# Altium integrated library MAXIM_Real_Time_Clocks.IntLib: 2 symbols
Pins are listed as number, name and electrical type; pins without a type are passive.

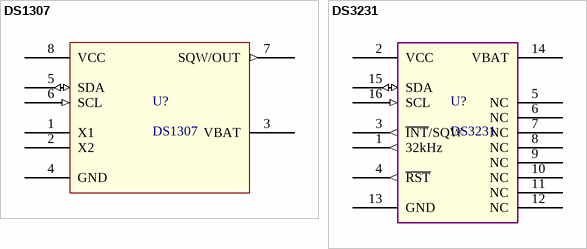
[diagram p0: symbols DS1307 to DS3231]

## DS1307
designator U?
64 x 8, Serial, I2C Real-Time Clock; ComponentLink1Description: Datasheet; ComponentLink1URL: https://datasheets.maximintegrated.com/en/ds/DS1307.pdf; Supplier 1: Farnell; Supplier Part Number 1: 2909754
footprint DIP762W47P254L991H457Q8 - duplicate (DIP, 7.62 mm lead span, 2.54 mm pitch; 8 pin, 9.91 mm L X 7.87 mm W X 4.572 mm H body)
footprint SOIC8P127_490X600X175L83X42N - duplicate (Small Outline IC (SOIC), 1.27 mm pitch; 8 pin, 4.90 mm L X 3.90 mm W X 1.75 mm H body)
pins: 1 X1 "Connections for Standard 32.768kHz Quartz Crystal. The internal oscillator circuitry is designed for operation with a crystal having a specified load capacitance (CL) of 12.5pF. X1 is the input to the oscillator and can optionally be connected to an external 32.768kHz oscillator. The output of the internal oscillator, X2, is floated if an external oscillator is connected to X1.", 2 X2 "Connections for Standard 32.768kHz Quartz Crystal. The internal oscillator circuitry is designed for operation with a crystal having a specified load capacitance (CL) of 12.5pF. X1 is the input to the oscillator and can optionally be connected to an external 32.768kHz oscillator. The output of the internal oscillator, X2, is floated if an external oscillator is connected to X1.", 3 VBAT (power) "Backup Supply Input for Any Standard 3V Lithium Cell or Other Energy Source. Battery voltage must be held between the minimum and maximum limits for proper operation. Diodes in series between the battery and the VBAT pin may prevent proper operation. If a backup supply is not required, VBAT must be grounded. The nominal power-fail trip point (VPF) voltage at which access to the RTC and user RAM is denied is set by the internal circuitry as 1.25 x VBAT nominal. A lithium battery with 48mAh or greater will back up the DS1307 for more than 10 years in the absence of power at +25°C.", 4 GND (power) "Ground", 5 SDA (io) "Serial Data Input/Output. SDA is the data input/output for the I2C serial interface. The SDA pin is open drain and requires an external pullup resistor. The pullup voltage can be up to 5.5V regardless of the voltage on VCC.", 6 SCL (in) "Serial Clock Input. SCL is the clock input for the I2C interface and is used to synchronize data movement on the serial interface. The pullup voltage can be up to 5.5V regardless of the voltage on VCC", 7 SQW/OUT (out) "Square Wave/Output Driver. When enabled, the SQWE bit set to 1, the SQW/OUT pin outputs one of four square-wave frequencies (1Hz, 4kHz, 8kHz, 32kHz). The SQW/OUT pin is open drain and requires an external pullup resistor. SQW/OUT operates with either VCC or VBAT applied. The pullup voltage can be up to 5.5V regardless of the voltage on VCC. If not used, this pin can be left floating", 8 VCC (power) "Primary Power Supply. When voltage is applied within normal limits, the device is fully accessible and data can be written and read. When a backup supply is connected to the device and VCC is below VTP, read and writes are inhibited. However, the timekeeping function continues unaffected by the lower input voltage"

## DS3231
designator U?
Extremely Accurate I2C-Integrated  RTC/TCXO/Crystal; ComponentLink1Description: Datasheet; ComponentLink1URL: https://datasheets.maximintegrated.com/en/ds/DS3231.pdf; Supplier 1: Mouser; Supplier Part Number 1: 700-DS3231M+
footprint SOIC127P1032X250-16 (IPC-7351C compliant Small Outline IC (SOIC), 1.27 mm pitch; 16 pin, 10.30 mm L X 7.50 mm W X 2.65 mm H body)
pins: 1 32kHz (out) "32kHz Output. This open-drain pin requires an external pullup resistor. When enabled, the output operates on  either power supply. It may be left open if not used.", 2 VCC (power) "DC Power Pin for Primary Power Supply. This pin should be decoupled using a 0.1μF to 1.0μF capacitor.  If not used, connect to ground.", 3 ~{INT}/SQW (out) "Active-Low Interrupt or Square-Wave Output. This open-drain pin requires an external pullup resistor connected  to a supply at 5.5V or less. This multifunction pin is determined by the state of the INTCN bit in the Control  Register (0Eh). When INTCN is set to logic 0, this pin outputs a square wave and its frequency is determined by  RS2 and RS1 bits. When INTCN is set to logic 1, then a match between the timekeeping registers and either of  the alarm registers activates the INT/SQW pin (if the alarm is enabled). Because the INTCN bit is set to logic 1  when power is first applied, the pin defaults to an interrupt output with alarms disabled. The pullup voltage can  be up to 5.5V, regardless of the voltage on VCC. If not used, this pin can be left unconnected.", 4 ~{RST} (out) "Active-Low Reset. This pin is an open-drain input/output. It indicates the status of VCC relative to the  VPF specification. As VCC falls below VPF, the RST pin is driven low. When VCC exceeds VPF, for tRST, the  RST pin is pulled high by the internal pullup resistor. The active-low, open-drain output is combined with a  debounced pushbutton input function. This pin can be activated by a pushbutton reset request. It has an internal  50kΩ nominal value pullup resistor to VCC. No external pullup resistors should be connected. If the oscillator is  disabled, tREC is bypassed and RST immediately goes high", 5 NC (power) "No Connection. Must be connected to ground", 6 NC (power) "No Connection. Must be connected to ground", 7 NC (power) "No Connection. Must be connected to ground", 8 NC (power) "No Connection. Must be connected to ground", 9 NC (power) "No Connection. Must be connected to ground", 10 NC (power) "No Connection. Must be connected to ground", 11 NC (power) "No Connection. Must be connected to ground", 12 NC (power) "No Connection. Must be connected to ground", 13 GND (power) "Ground", 14 VBAT (power) "Backup Power-Supply Input. When using the device with the VBAT input as the primary power source, this pin  should be decoupled using a 0.1μF to 1.0μF low-leakage capacitor. When using the device with the VBAT input  as the backup power source, the capacitor is not required. If VBAT is not used, connect to ground. The device is  UL recognized to ensure against reverse charging when used with a primary lithium battery.", 15 SDA (io) "Serial Data Input/Output. This pin is the data input/output for the I2C serial interface. This open-drain pin  requires an external pullup resistor. The pullup voltage can be up to 5.5V, regardless of the voltage on VCC.", 16 SCL (in) "Serial Clock Input. This pin is the clock input for the I2C serial interface and is used to synchronize data  movement on the serial interface. Up to 5.5V can be used for this pin, regardless of the voltage on VCC."